# Altium footprint library Convertidores AC_DC.PcbLib: 2 footprints
Each footprint in its own frame and in the unit in brackets; x right, y up, seen from the top. Pads: shape width x height; smd on the part's side, far side on the other; paste and mask are expansions set on the pad; w line width, h text height; cw(c..) or ccw(c..) is an arc to the next point about the centre after c.
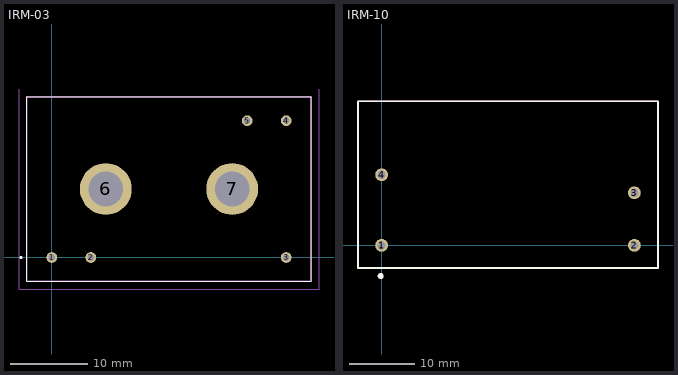
[diagram p0: the footprints below, top view; thin cyan lines are the x and y axes]

## IRM-03 [mm]
pads (7):
  round 1.4 hole 0.9: 1(0,0) 2(5.08,0) 3(30.48,0) 4(30.48,17.78) 5(25.4,17.78)
  round 6.75 hole 4.5: 6(7.02,8.9) 7(23.46,8.9)
Top Overlay:
  lines w0.1: -3.26,-3.1 33.74,-3.1 33.74,20.9 -3.26,20.9 -3.26,-3.1
  lines w0.2: -4,-0.1 cw(c-4,0) -4,0.1 cw(c-4,0) -4,-0.1
Mechanical 13:
  lines w0.2: -3.26,-3.1 33.74,-3.1 33.74,20.9 -3.26,20.9 -3.26,-3.1
Mechanical 15:
  lines w0.1: -4.26,21.9 -4.26,-4.1 34.74,-4.1 34.74,21.9
3D body "convertidor AC_DC - IRM-03-12.step": height 15, standoff -2.5, extent -3.26,-3.11 33.74,20.89

## IRM-10 [mm]
pads (4):
  round 1.95 hole 1.24: 1(0,0) 2(38.5,0) 3(38.5,8) 4(0,10.75)
Top Overlay:
  circle w0.7: c-0.139,-4.677 r0.111
  lines w0.254: -3.6,-3.45 42.1,-3.45 42.1,21.95 -3.6,21.95 -3.6,-3.45
Mechanical 13:
  lines w0.254: -3.6,-3.45 -3.6,21.95 42.1,21.95 42.1,-3.45 -3.6,-3.45